# Altium footprint library Capacitor SMD 6.6mm.PcbLib: 1 footprints
Each footprint in its own frame and in the unit in brackets; x right, y up, seen from the top. Pads: shape width x height; smd on the part's side, far side on the other; paste and mask are expansions set on the pad; w line width, h text height; cw(c..) or ccw(c..) is an arc to the next point about the centre after c.
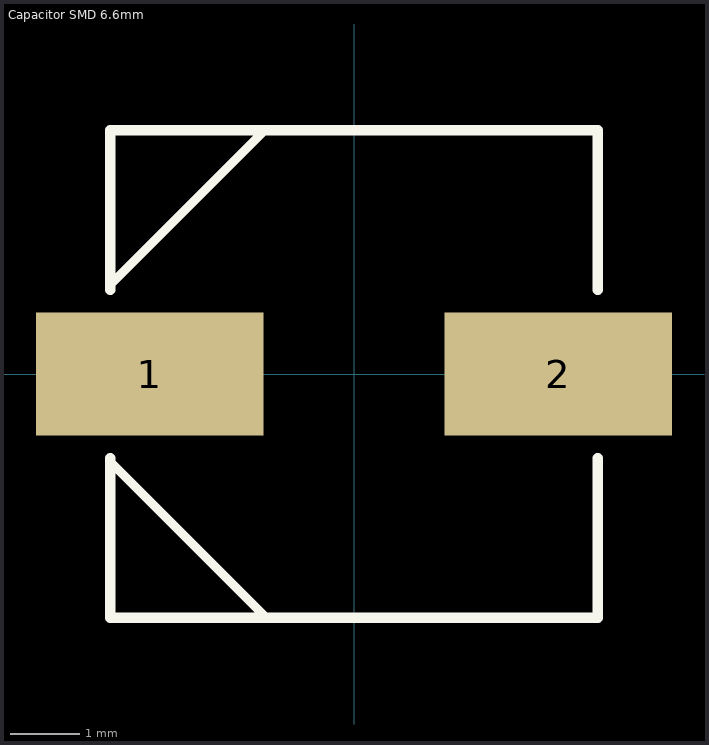
[diagram p0: the footprint, top view; thin cyan lines are the x and y axes]

## Capacitor SMD 6.6mm [mil]
pads (2):
  rect 130x70 smd paste+0 mask+0: 1(-116.5,0) 2(116.5,0)
Top Overlay:
  lines w5: -139,-48.1 -139,-50 -50,-139 ; -139,48.1 -139,51 -51,139
  lines w6: -139,-48.1 -139,-139 139,-139 139,-48.1 ; -139,48.1 -139,139 139,139 139,48.1
3D body "CAP_EEE_D8.stp": height 317.01, standoff 0, extent -153.5,-134.01 153.51,134.02